# Altium schematic symbol library Schlib.SchLib: 13 symbols
Pins are listed as number, name and electrical type; pins without a type are passive.

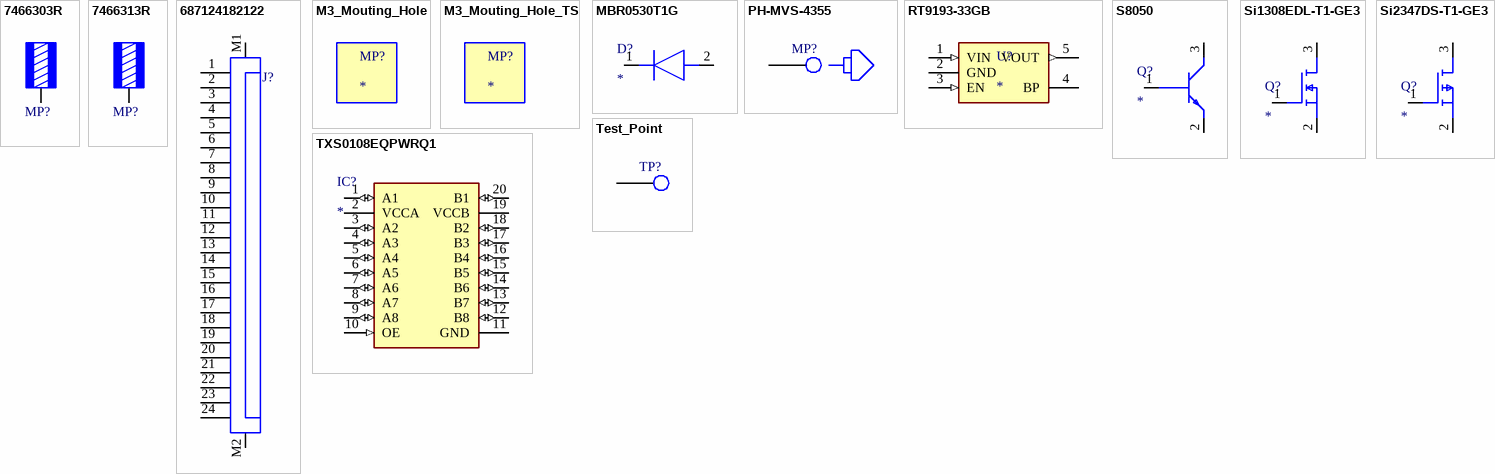
[diagram p0: symbols 7466303R to TXS0108EQPWRQ1]

## 7466303R
designator MP?, comment M3  (value not drawn)
WP-SMRA REDCUBE SMT Right Angled without pins, M3, 50A; Manufacturer Part Number: 7466303R; Manufacturer: Wurth Elektronik; Surface: Tin; ComponentLink1Description: Website Link; ComponentLink1URL: https://www.we-online.com/redexpert/article/7466303R?ad; ComponentLink2Description: Datasheet Link; ComponentLink2URL: https://www.we-online.com/redexpert/spec/7466303R?ad; Category: REDCUBE SMT; Match Code: WP-SMRA; Mount: Surface Mount; Operating Temperature Max: 150°C; Operating Temperature Min: -55°C; Packaging: Tape and Reel; Height: 5mm; Material: Brass; Rated Current: 50A; Thread Size: M3
footprint 7466303
pins: 1

## 7466313R
designator MP?, comment M3  (value not drawn)
WP-SMRA REDCUBE SMT Right Angled with pins, M3, 50A; Manufacturer Part Number: 7466313R; Manufacturer: Wurth Elektronik; Surface: Tin; ComponentLink1Description: Website Link; ComponentLink1URL: https://www.we-online.com/redexpert/article/7466313R?ad; ComponentLink2Description: Datasheet Link; ComponentLink2URL: https://www.we-online.com/redexpert/spec/7466313R?ad; Category: REDCUBE SMT; Match Code: WP-SMRA; Mount: Surface Mount; Operating Temperature Max: 150°C; Operating Temperature Min: -55°C; Packaging: Tape and Reel; Height: 7mm; Material: Brass; Rated Current: 50A; Thread Size: M3
footprint 7466313
pins: 1

## 687124182122
designator J?  (value not drawn)
WR-FPC SMT ZIF Horizontal Dual Contact, pitch 0.5mm, Horizontal, 24pins; Manufacturer: Wurth Elektronik; Contact Resistance: 30mΩ; Rated Current: 0.5A; Working Voltage: 50VAC; ComponentLink1Description: Website Link; ComponentLink1URL: https://www.we-online.com/redexpert/article/687124182122?ad; ComponentLink2Description: Datasheet Link; ComponentLink2URL: https://www.we-online.com/redexpert/spec/687124182122?ad; Manufacturer Part Number: 687124182122; Category: FPC Connectors; Match Code: WR-FPC; Mount: Surface Mount; Operating Temperature Max: 85°C; Operating Temperature Min: -55°C; Packaging: Tape and Reel; Length: 14mm; Width: 3.7mm; Height: 0.96mm; Number of Pins: 24; Orientation: Horizontal; Pitch: 0.5mm
footprint 687124182122
pins: 1, 2, 3, 4, 5, 6, 7, 8, 9, 10, 11, 12, 13, 14, 15, 16, 17, 18, 19, 20, 21, 22, 23, 24, M1, M2

## M3_Mouting_Hole
designator MP?
footprint M3_Mouting_Hole

## M3_Mouting_Hole_TS
designator MP?
footprint M3_Mouting_Hole

## MBR0530T1G
designator D?
Diode; Manufacturer_Name: onsemi; Manufacturer_Part_Number: MBR0530T1G; Description: Guardring for Stress Protection; Low Forward Voltage; 125 C Operating Junction Temperature; Epoxy Meets UL94; Datasheet Link: https://www.onsemi.com/pub/Collateral/MBR0530T1-D.PDF; Height: 1.35mm; Mouser Part Number: 863-MBR0530T1G; Mouser Price/Stock: https://www.mouser.co.uk/ProductDetail/onsemi/MBR0530T1G?qs=3JMERSakeboS%2FFOxJUMWeg%3D%3D; Arrow Part Number: MBR0530T1G; Arrow Price/Stock: https://www.arrow.com/en/products/mbr0530t1g/on-semiconductor?utm_currency=USD&region=europe
footprint SOD3716X135N
pins: 1 K, 2 A

## PH-MVS-4355
designator MP?
Pogo Pin CONTACT SPRING LOADED SLDR CUP
footprint PH-MVS-4355
pins: 1

## RT9193-33GB
designator U?
Linear Voltage Regulator IC Positive Fixed 1 Output 300mA TSOT-23-5; MP: RT9193-33GB; MF: Richtek USA; SnapEDA_Link: https://www.snapeda.com/parts/RT9193-33GB/Richtek+USA+Inc./view-part/?ref=snap; Package: SOT-23-5 Richtek; Check_prices: https://www.snapeda.com/parts/RT9193-33GB/Richtek+USA+Inc./view-part/?ref=eda; Purchase-URL: https://pricing.snapeda.com/search/part/RT9193-33GB/?ref=eda; Digi-Key_Part_Number: 1028-1014-2-ND; Value: *
footprint SOT94P279X129-5N
pins: 1 VIN (in), 2 GND (power), 3 EN (in), 4 BP, 5 VOUT (out)

## S8050
designator Q?
Transistor BJT NPN; Manufacturer_Name: Diodes Incorporated; Manufacturer_Part_Number: MMBTA42-7-F; Description: Bipolar (BJT) Transistor NPN 300 V 500 mA 50MHz 300 mW Surface Mount SOT-23-3; Datasheet Link: https://www.diodes.com//assets/Datasheets/MMBTA42.pdf; Height: 1.1mm; Mouser Part Number: 621-MMBTA42-F; Mouser Price/Stock: https://www.mouser.co.uk/ProductDetail/Diodes-Incorporated/MMBTA42-7-F?qs=zB6%252Byl1wqIEWwZSkOSfeMQ%3D%3D; Arrow Part Number: MMBTA42-7-F; Arrow Price/Stock: https://www.arrow.com/en/products/mmbta42-7-f/diodes-incorporated?utm_currency=USD&region=nac
footprint S8050
pins: 1 B, 2 E, 3 C

## Si1308EDL-T1-GE3
designator Q?
MOSFET (N-Channel); Manufacturer_Name: Vishay; Manufacturer_Part_Number: Si1308EDL-T1-GE3; Description: MOSFET N-Ch 30V 1.5A TrenchFET SC70 Vishay Si1308EDL-T1-GE3 N-channel MOSFET Transistor; Datasheet Link: https://componentsearchengine.com/Datasheets/1/SI1308EDL-T1-GE3.pdf; Height: 1.1mm; Mouser Part Number: 78-SI1308EDL-T1-GE3; Mouser Price/Stock: https://www.mouser.co.uk/ProductDetail/Vishay-Semiconductors/SI1308EDL-T1-GE3?qs=bX1%252BNvsK%2FBramh9tgpOaEw%3D%3D; Arrow Part Number: SI1308EDL-T1-GE3; Arrow Price/Stock: https://www.arrow.com/en/products/si1308edl-t1-ge3/vishay?utm_currency=USD&region=nac
footprint SOT65P210X110-3N
pins: 1 G, 2 S, 3 D

## Si2347DS-T1-GE3
designator Q?
MOSFET (P-Channel); Manufacturer_Name: Vishay; Manufacturer_Part_Number: Si2347DS-T1-GE3; Description: P-Ch MOSFET SOT-23 copper 30V 42mohm @ 1; Datasheet Link: https://www.vishay.com/docs/62827/si2347ds.pdf; Height: 1.12mm; Mouser Part Number: 78-SI2347DS-T1-GE3; Mouser Price/Stock: https://www.mouser.co.uk/ProductDetail/Vishay-Semiconductors/SI2347DS-T1-GE3?qs=wnm%2FPMJNddFQv4lfacOrcA%3D%3D; Arrow Part Number: SI2347DS-T1-GE3; Arrow Price/Stock: https://www.arrow.com/en/products/si2347ds-t1-ge3/vishay?region=nac
footprint SOT95P237X112-3N
pins: 1 G, 2 S, 3 D

## Test_Point
designator TP?  (no BOM)
Test Point
footprint Test_Point
pins: 1

## TXS0108EQPWRQ1
designator IC?
Integrated Circuit; Manufacturer_Name: Texas Instruments; Manufacturer_Part_Number: TXS0108EQPWRQ1; Datasheet Link: http://www.ti.com/lit/gpn/txs0108e-q1; Height: 1.2mm; Mouser Part Number: 595-TXS0108EQPWRQ1; Mouser Price/Stock: https://www.mouser.co.uk/ProductDetail/Texas-Instruments/TXS0108EQPWRQ1?qs=4BLsKd%2FIMYCjsiJW21Sqxg%3D%3D; Arrow Part Number: TXS0108EQPWRQ1; Arrow Price/Stock: https://www.arrow.com/en/products/txs0108eqpwrq1/texas-instruments?utm_currency=USD&region=nac
footprint SOP65P640X120-20N
pins: 1 A1 (io), 2 VCCA (power), 3 A2 (io), 4 A3 (io), 5 A4 (io), 6 A5 (io), 7 A6 (io), 8 A7 (io), 9 A8 (io), 10 OE (in), 11 GND (power), 12 B8 (io), 13 B7 (io), 14 B6 (io), 15 B5 (io), 16 B4 (io), 17 B3 (io), 18 B2 (io), 19 VCCB (power), 20 B1 (io)